# Altium footprint library PCB - CONNECTORS - Display Visions - EA WF030-39S.PcbLib: 1 footprints
Each footprint in its own frame and in the unit in brackets; x right, y up, seen from the top. Pads: shape width x height; smd on the part's side, far side on the other; paste and mask are expansions set on the pad; w line width, h text height; cw(c..) or ccw(c..) is an arc to the next point about the centre after c.
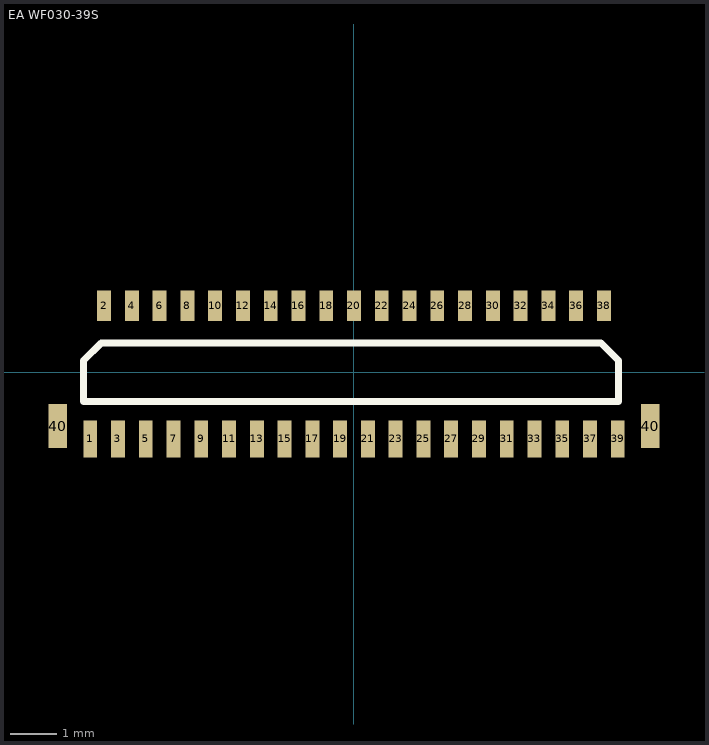
[diagram p0: the footprint, top view; thin cyan lines are the x and y axes]

## EA WF030-39S [mm]
pads (41):
  rect 0.3x0.8 smd mask+0: 1(-5.7,-1.437) 3(-5.1,-1.437) 5(-4.5,-1.437) 7(-3.9,-1.437) 9(-3.3,-1.437) 11(-2.7,-1.437) 13(-2.1,-1.437) 15(-1.5,-1.437) 17(-0.9,-1.437) 19(-0.3,-1.437) 21(0.3,-1.437) 23(0.9,-1.437) 25(1.5,-1.437) 27(2.1,-1.437) 29(2.7,-1.437) 31(3.3,-1.437) 33(3.9,-1.437) 35(4.5,-1.437) 37(5.1,-1.437) 39(5.7,-1.437)
  rect 0.3x0.65 smd paste+0 mask+0: 2(-5.4,1.438) 4(-4.8,1.438) 6(-4.2,1.438) 8(-3.6,1.438) 10(-3,1.438) 12(-2.4,1.438) 14(-1.8,1.438) 16(-1.2,1.438) 18(-0.6,1.438) 20(0,1.438) 22(0.6,1.438) 24(1.2,1.438) 26(1.8,1.438) 28(2.4,1.438) 30(3,1.438) 32(3.6,1.438) 34(4.2,1.438) 36(4.8,1.438) 38(5.4,1.438)
  rect 0.4x0.95 smd mask+0: 40(-6.4,-1.162) 40(6.4,-1.162)
Top Overlay:
  lines w0.15: -5.842,-0.635 -5.842,0.254 -5.461,0.635 5.334,0.635 5.715,0.254 5.715,-0.635 -5.842,-0.635
3D body "EA WF030-39S.step": height 1, standoff 0, extent -6.625,-1.762 6.575,1.588